# EAGLE library part CORTEX-ICE (library cortex-debug)
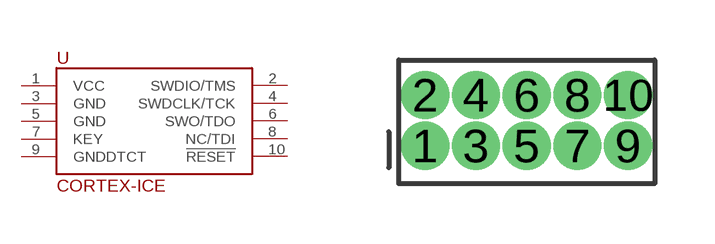
[diagram p0: symbol with the pads of 2X5-1.27MM; footprint 2X5-1.27MM]

Designator prefix -

## CORTEX-ICE  [2X5-1.27MM]
1  VCC
2  SWDIO/TMS
3  GND
4  SWDCLK/TCK
5  GND
6  SWO/TDO
7  KEY
8  NC/TDI
9  GNDDTCT
10  !RESET

## Footprint 2X5-1.27MM (pad centres in mm)
drill 0.7 pad 1.016: 1 -2.54,0; 2 -2.54,1.27; 3 -1.27,0; 4 -1.27,1.27; 5 0,0; 6 0,1.27; 7 1.27,0; 8 1.27,1.27; 9 2.54,0; 10 2.54,1.27